# Altium footprint library ICs_Memory.PcbLib: 1 footprints
Each footprint in its own frame and in the unit in brackets; x right, y up, seen from the top. Pads: shape width x height; smd on the part's side, far side on the other; paste and mask are expansions set on the pad; w line width, h text height; cw(c..) or ccw(c..) is an arc to the next point about the centre after c.
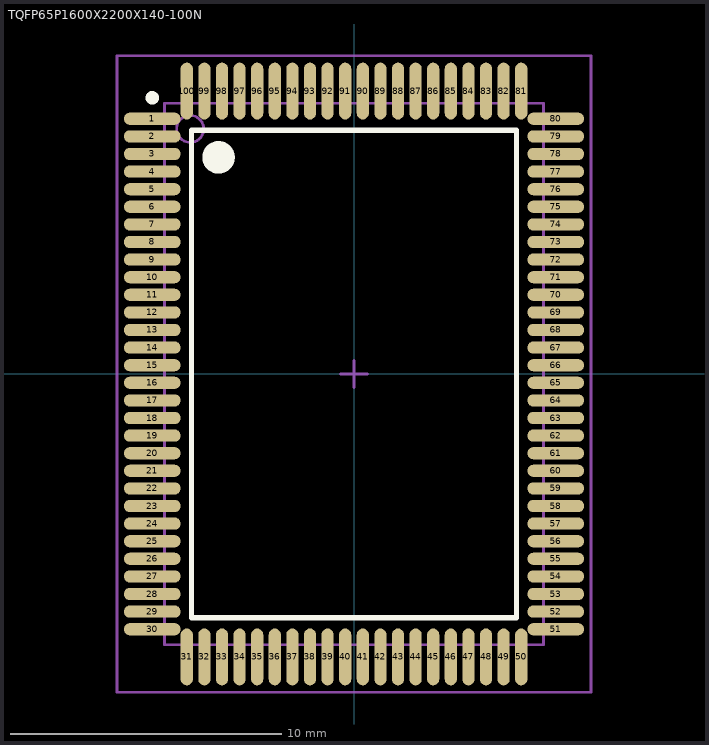
[diagram p0: the footprint, top view; thin cyan lines are the x and y axes]

## TQFP65P1600X2200X140-100N [mm]
pads (100):
  oval 2.1x0.45 smd: 1(-7.45,9.425) 2(-7.45,8.775) 3(-7.45,8.125) 4(-7.45,7.475) 5(-7.45,6.825) 6(-7.45,6.175) 7(-7.45,5.525) 8(-7.45,4.875) 9(-7.45,4.225) 10(-7.45,3.575) 11(-7.45,2.925) 12(-7.45,2.275) 13(-7.45,1.625) 14(-7.45,0.975) 15(-7.45,0.325) 16(-7.45,-0.325) 17(-7.45,-0.975) 18(-7.45,-1.625) 19(-7.45,-2.275) 20(-7.45,-2.925) 21(-7.45,-3.575) 22(-7.45,-4.225) 23(-7.45,-4.875) 24(-7.45,-5.525) 25(-7.45,-6.175) 26(-7.45,-6.825) 27(-7.45,-7.475) 28(-7.45,-8.125) 29(-7.45,-8.775) 30(-7.45,-9.425) 51(7.45,-9.425) 52(7.45,-8.775) 53(7.45,-8.125) 54(7.45,-7.475) 55(7.45,-6.825) 56(7.45,-6.175) 57(7.45,-5.525) 58(7.45,-4.875) 59(7.45,-4.225) 60(7.45,-3.575) 61(7.45,-2.925) 62(7.45,-2.275) 63(7.45,-1.625) 64(7.45,-0.975) 65(7.45,-0.325) 66(7.45,0.325) 67(7.45,0.975) 68(7.45,1.625) 69(7.45,2.275) 70(7.45,2.925) 71(7.45,3.575) 72(7.45,4.225) 73(7.45,4.875) 74(7.45,5.525) 75(7.45,6.175) 76(7.45,6.825) 77(7.45,7.475) 78(7.45,8.125) 79(7.45,8.775) 80(7.45,9.425)
  oval 0.45x2.1 smd: 31(-6.175,-10.45) 32(-5.525,-10.45) 33(-4.875,-10.45) 34(-4.225,-10.45) 35(-3.575,-10.45) 36(-2.925,-10.45) 37(-2.275,-10.45) 38(-1.625,-10.45) 39(-0.975,-10.45) 40(-0.325,-10.45) 41(0.325,-10.45) 42(0.975,-10.45) 43(1.625,-10.45) 44(2.275,-10.45) 45(2.925,-10.45) 46(3.575,-10.45) 47(4.225,-10.45) 48(4.875,-10.45) 49(5.525,-10.45) 50(6.175,-10.45) 81(6.175,10.45) 82(5.525,10.45) 83(4.875,10.45) 84(4.225,10.45) 85(3.575,10.45) 86(2.925,10.45) 87(2.275,10.45) 88(1.625,10.45) 89(0.975,10.45) 90(0.325,10.45) 91(-0.325,10.45) 92(-0.975,10.45) 93(-1.625,10.45) 94(-2.275,10.45) 95(-2.925,10.45) 96(-3.575,10.45) 97(-4.225,10.45) 98(-4.875,10.45) 99(-5.525,10.45) 100(-6.175,10.45)
Top Overlay:
  circle w0.6: c-5,8 r0.3
  circle w0.25: c-7.45,10.2 r0.125
  lines w0.2: -6,-9 6,-9 6,9 -6,9 -6,-9
Mechanical 13:
  circle w0.1: c-6.05,9.05 r0.5
  lines w0.1: -7,-10 7,-10 7,10 -7,10 -7,-10
Mechanical 15:
  lines w0.1: -0.5,0 0.5,0 ; 0,-0.5 0,0.5 ; -8.75,-11.75 8.75,-11.75 8.75,11.75 -8.75,11.75 -8.75,-11.75
3D body: height 1.4, standoff 0.05, extent -7,-10 7,10